# EAGLE library part UPC1213C (library Audio-Power-amlifier V.2.0)
AUDIO POWER AMPLIEFIER AT 9-VOLT POWER SUPPLY
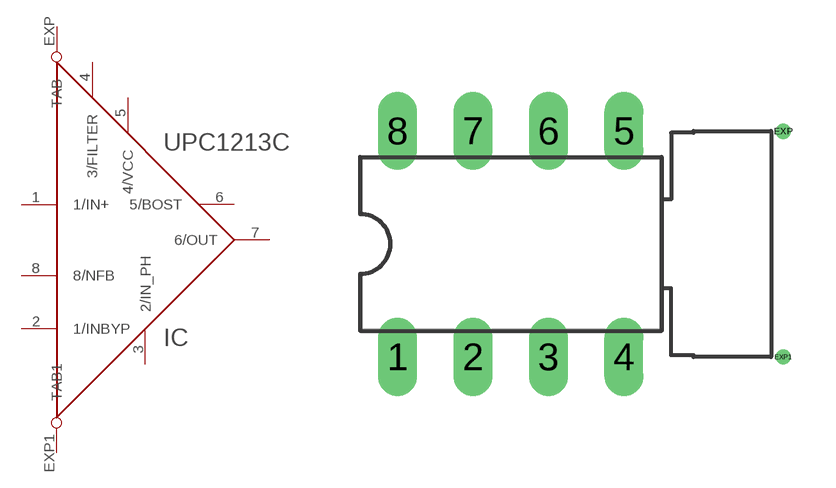
[diagram p190: symbol with the pads of DIL08-TAB; footprint DIL08-TAB]

Designator prefix IC

## UPC1213C  [DIL08-TAB]
1  1/IN+  in
2  1/INBYP  in
3  2/IN_PH  in
4  3/FILTER
5  4/VCC  pwr
6  5/BOST
7  6/OUT  out
8  8/NFB  in
EXP  TAB  pwr
EXP1  TAB1  pwr

## Footprint DIL08-TAB (pad centres in mm)
Dual In Line Package With TAB
drill 0.813 long: 1 -3.81,-3.81; 2 -1.27,-3.81; 3 1.27,-3.81; 4 3.81,-3.81; 5 3.81,3.81; 6 1.27,3.81; 7 -1.27,3.81; 8 -3.81,3.81
drill 0.01 pad 0.01: EXP 9.18,3.8; EXP1 9.18,-3.81